# Altium schematic symbol library arduino.SchLib: 2 symbols
Pins are listed as number, name and electrical type; pins without a type are passive.

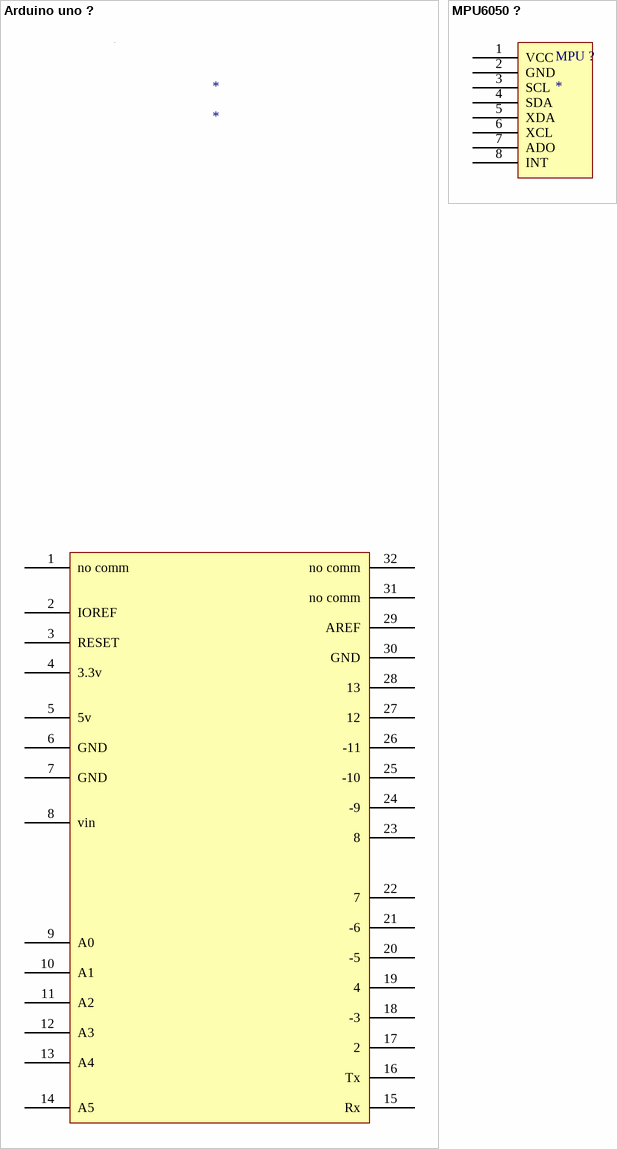
[diagram p0: symbols Arduino uno ? to MPU6050 ?]

## Arduino uno ?
designator *
Parameter 1: ARDUINO
footprint ARD LIB
pins: 1 no comm, 2 IOREF, 3 RESET, 4 3.3v, 5 5v, 6 GND, 7 GND, 8 vin, 9 A0, 10 A1, 11 A2, 12 A3, 13 A4, 14 A5, 15 Rx, 16 Tx, 17 2, 18 -3, 19 4, 20 -5, 21 -6, 22 7, 23 8, 24 -9, 25 -10, 26 -11, 27 12, 28 13, 29 AREF, 30 GND, 31 no comm, 32 no comm

## MPU6050 ?
designator MPU ?
Parameter 1: MPU6050
footprint MPU pcb - duplicate
pins: 1 VCC, 2 GND, 3 SCL, 4 SDA, 5 XDA, 6 XCL, 7 ADO, 8 INT